# EAGLE library part NE5514 (library opamps)
NE5514: Quad opamp (Philips) ±15V, ±10mA, 30nA bias 6mV offset, 3MHz UGF, 30nV/rt(Hz) noise
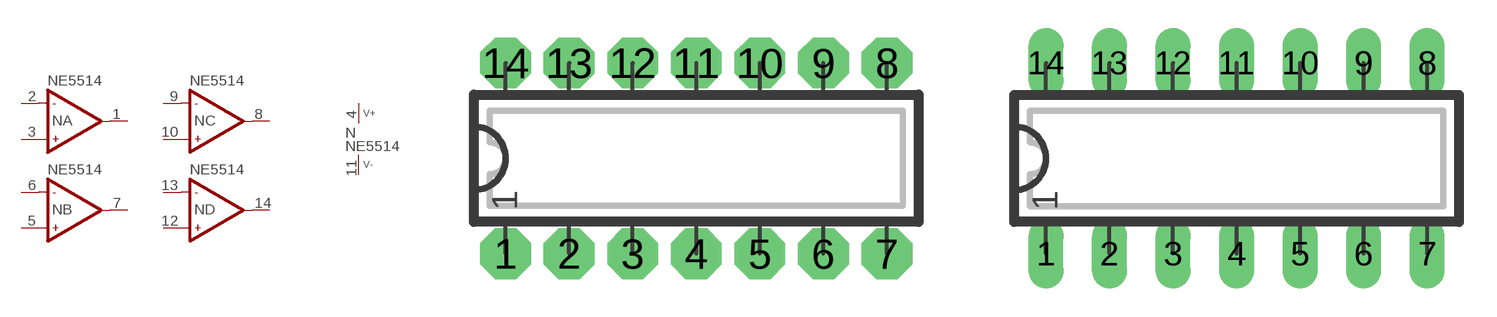
[diagram p125: symbol with the pads of DIP14N; footprints DIP14N, DIP14L]

Designator prefix N; gates A=OP-NAME B=OP-NAME C=OP-NAME D=OP-NAME P=V+-

## NE5514N  [DIP14N]
1  A:OUT  out
2  A:IN-  in
3  A:IN+  in
4  P:V+  pwr
5  B:IN+  in
6  B:IN-  in
7  B:OUT  out
8  C:OUT  out
9  C:IN-  in
10  C:IN+  in
11  P:V-  pwr
12  D:IN+  in
13  D:IN-  in
14  D:OUT  out

## NE5514L  [DIP14L]
Pads as for DIP14N

## NE5514  [DIP14L]
Pads as for DIP14N

## NE5514R  [DIP14R]
Pads as for DIP14N

## NE5514S  [SO16]
1  A:OUT  out
2  A:IN-  in
3  A:IN+  in
4  P:V+  pwr
6  B:IN+  in
7  B:IN-  in
8  B:OUT  out
9  C:OUT  out
10  C:IN-  in
11  C:IN+  in
13  P:V-  pwr
14  D:IN+  in
15  D:IN-  in
16  D:OUT  out

## Footprint DIP14N (pad centres in mm)
DIP-14 Standard IC package, 14 pins
drill 0.813 pad 2.032 octagon: 1 -7.62,-3.81; 2 -5.08,-3.81; 3 -2.54,-3.81; 4 0,-3.81; 5 2.54,-3.81; 6 5.08,-3.81; 7 7.62,-3.81; 8 7.62,3.81; 9 5.08,3.81; 10 2.54,3.81; 11 0,3.81; 12 -2.54,3.81; 13 -5.08,3.81; 14 -7.62,3.81

## Footprint DIP14L (pad centres in mm)
DIP-14, long pads Standard IC package, 14 pins
drill 0.813 pad 1.397 long: 1 -7.62,-3.81; 2 -5.08,-3.81; 3 -2.54,-3.81; 4 0,-3.81; 5 2.54,-3.81; 6 5.08,-3.81; 7 7.62,-3.81; 8 7.62,3.81; 9 5.08,3.81; 10 2.54,3.81; 11 0,3.81; 12 -2.54,3.81; 13 -5.08,3.81; 14 -7.62,3.81

## Footprint DIP14R (pad centres in mm)
DIP-14, reduced pads Standard IC package, 14 pins
drill 0.813 pad 1.27 square: 1 -7.62,-3.81
drill 0.813 pad 1.397 square: 2 -5.08,-3.81; 3 -2.54,-3.81; 4 0,-3.81; 5 2.54,-3.81; 6 5.08,-3.81; 7 7.62,-3.81; 8 7.62,3.81; 9 5.08,3.81; 10 2.54,3.81; 11 0,3.81; 12 -2.54,3.81; 13 -5.08,3.81; 14 -7.62,3.81

## Footprint SO16 (pad centres in mm)
SO-16, SMD SOIC IC package, 16 pins
smd 0.635 x 1.778: 1 -4.445,-2.857; 2 -3.175,-2.857; 3 -1.905,-2.857; 4 -0.635,-2.857; 5 0.635,-2.857; 6 1.905,-2.857; 7 3.175,-2.857; 8 4.445,-2.857; 9 4.445,2.857; 10 3.175,2.857; 11 1.905,2.857; 12 0.635,2.857; 13 -0.635,2.857; 14 -1.905,2.857; 15 -3.175,2.857; 16 -4.445,2.857